# EAGLE library part TP4057_KXN (library kxnStandard_IC_Power)
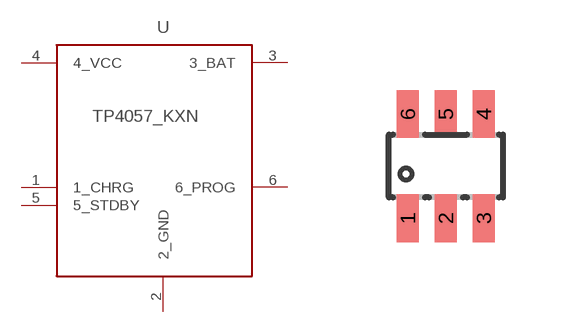
[diagram p1: symbol with the pads of SOT23-6; footprint SOT23-6]

Designator prefix -

## TP4057_KXN_FULL (CC_SHOP: CongCo)  [SOT23-6]
1  1_CHRG
2  2_GND
3  3_BAT
4  4_VCC
5  5_STDBY
6  6_PROG

## Footprint SOT23-6 (pad centres in mm)
smd 0.55 x 1.2: 1 -0.95,-1.3; 2 0,-1.3; 3 0.95,-1.3; 4 0.95,1.3; 5 0,1.3; 6 -0.95,1.3